# Altium footprint library Battery.PcbLib: 4 footprints
Each footprint in its own frame and in the unit in brackets; x right, y up, seen from the top. Pads: shape width x height; smd on the part's side, far side on the other; paste and mask are expansions set on the pad; w line width, h text height; cw(c..) or ccw(c..) is an arc to the next point about the centre after c.
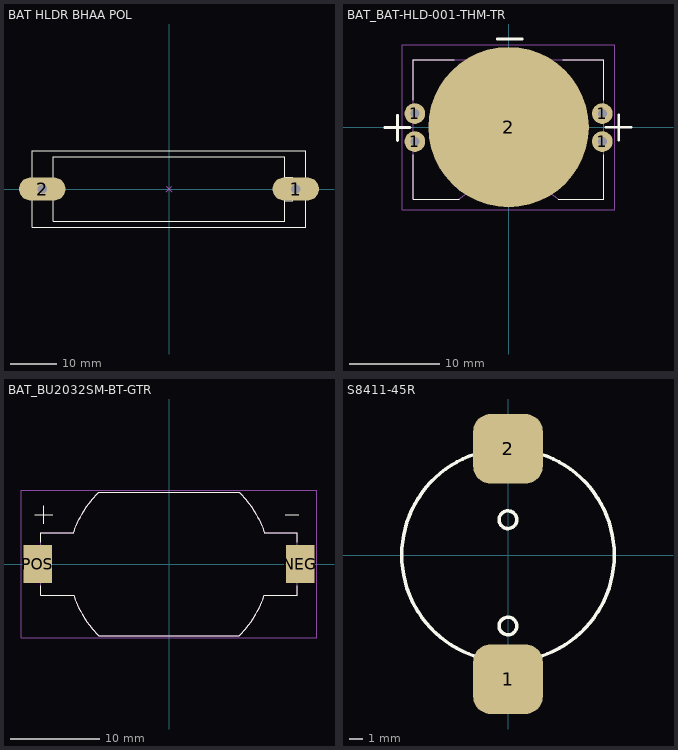
[diagram p0: the footprints below, top view; thin cyan lines are the x and y axes]

## BAT HLDR BHAA POL [mm]
pads (2):
  oval 10x5 hole 2: 1(27.305,0) 2(-27.305,0)
Top Overlay:
  lines w0.254: 24.892,-2.54 26.67,-2.54 26.67,2.54 24.892,2.54 ; -29.464,-8.255 29.464,-8.255 29.464,8.255 -29.464,8.255 -29.464,-8.255 ; -24.892,-6.985 24.892,-6.985 24.892,6.985 -24.892,6.985 -24.892,-6.985
Mechanical 1:
  lines w0.254: -0.635,-0.635 0.635,0.635 ; -0.635,0.635 0.635,-0.635
3D body "User Library-BAT_HLDR_BHAA-POL.STEP": height 21.12, standoff -3.28, extent -29.464,-8.255 29.464,8.255
3D body "User Library-BATTERY_AA.step": height 17.01, standoff 2.99, extent -24.9,-7.031 24.9,6.985

## BAT_BAT-HLD-001-THM-TR [mm]
pads (5):
  round 2.3 hole 1: 1(-10.4,-1.6) 1(-10.4,1.5) 1(10.4,-1.6) 1(10.4,1.5)
  round 17.8 smd paste-10: 2(0,0)
Top Overlay:
  lines w0.127: -10.55,-3.07 -10.55,-8 -5.5,-8 ; -10.55,2.97 -10.55,7.5 -6,7.5 ; 5.5,-8 10.55,-8 10.55,-3.07 ; 6,7.5 10.55,7.5 10.55,2.97
  lines w0.3: -13.729,-0.042 -10.935,-0.042 ; -12.314,-1.484 -12.314,1.31 ; -1.27,9.779 1.524,9.779 ; 10.81,-0.003 13.604,-0.003 ; 12.224,-1.445 12.224,1.349
Mechanical 13:
  lines w0.127: -5.558,-8.048 cw(c0.071,-14.756) 0.071,-6 ; -5.5,-8 -10.55,-8 -10.55,7.5 10.55,7.5 10.55,-8 5.5,-8 ; -0.071,-6 cw(c-0.071,-14.756) 5.558,-8.048
Mechanical 15:
  lines w0.05: -11.8,-9.15 -11.8,9.15 11.8,9.15 11.8,-9.15 -11.8,-9.15
3D body "BAT-HLD-001-THM-TR--3DModel-STEP-56544 (1).STEP": height 4.32, standoff -3.3, extent -10.541,-8.001 10.541,7.493

## BAT_BU2032SM-BT-GTR [mm]
pads (2):
  rect 3.2x4.2 smd: NEG(14.65,0) POS(-14.65,0)
Top Overlay:
  lines w0.127: -15,5.5 -13,5.5 ; -14.3,-2.42 -14.3,-3.5 -10.645,-3.5 -10.581,-3.681 -10.458,-4.024 -10.35,-4.287 -10.242,-4.538 -10.058,-4.937 -9.88,-5.282 -9.7,-5.594 -9.524,-5.892 -9.168,-6.436 -8.897,-6.809 -8.516,-7.277 -8.022,-7.82 -7.838,-8 ; -14.3,2.42 -14.3,3.5 -10.645,3.5 -10.581,3.681 -10.458,4.024 -10.35,4.287 -10.242,4.538 -10.058,4.937 -9.88,5.282 -9.7,5.594 -9.524,5.892 -9.168,6.436 -8.897,6.809 -8.516,7.277 -8.022,7.82 -7.838,8 ; -14,4.5 -14,6.5 ; -7.835,-8 7.835,-8 ; -7.835,8 7.835,8 ; 7.838,-8 8.022,-7.82 8.516,-7.277 8.897,-6.809 9.168,-6.436 9.524,-5.892 9.7,-5.594 9.88,-5.282 10.058,-4.937 10.242,-4.538 10.35,-4.287 10.458,-4.024 10.581,-3.681 10.645,-3.5 14.3,-3.5 14.3,-2.42 ; 7.838,8 8.022,7.82 8.516,7.277 8.897,6.809 9.168,6.436 9.524,5.892 9.7,5.594 9.88,5.282 10.058,4.937 10.242,4.538 10.35,4.287 10.458,4.024 10.581,3.681 10.645,3.5 14.3,3.5 14.3,2.42 ; 13,5.5 14.5,5.5
Mechanical 13:
  lines w0.127: -7.838,-8 -8.022,-7.82 -8.516,-7.277 -8.897,-6.809 -9.168,-6.436 -9.524,-5.892 -9.7,-5.594 -9.88,-5.282 -10.058,-4.937 -10.242,-4.538 -10.35,-4.287 -10.458,-4.024 -10.581,-3.681 -10.645,-3.5 -14.3,-3.5 -14.3,3.5 -10.645,3.5 -10.581,3.681 -10.458,4.024 -10.35,4.287 -10.242,4.538 -10.058,4.937 -9.88,5.282 -9.7,5.594 -9.524,5.892 -9.168,6.436 -8.897,6.809 -8.516,7.277 -8.022,7.82 -7.838,8 ; -7.835,-8 7.835,-8 ; -7.835,8 7.835,8 ; 7.838,-8 8.022,-7.82 8.516,-7.277 8.897,-6.809 9.168,-6.436 9.524,-5.892 9.7,-5.594 9.88,-5.282 10.058,-4.937 10.242,-4.538 10.35,-4.287 10.458,-4.024 10.581,-3.681 10.645,-3.5 14.3,-3.5 14.3,3.5 10.645,3.5 10.581,3.681 10.458,4.024 10.35,4.287 10.242,4.538 10.058,4.937 9.88,5.282 9.7,5.594 9.524,5.892 9.168,6.436 8.897,6.809 8.516,7.277 8.022,7.82 7.838,8
Mechanical 15:
  lines w0.05: -16.5,-8.25 -16.5,8.25 16.5,8.25 16.5,-8.25 -16.5,-8.25
3D body "BU2032SM-BT-GTR--3DModel-STEP-1.STEP": height 5.2, standoff 0, extent -15.93,-8 15.93,8

## S8411-45R [mm]
pads (2):
  rrect50% 5x5 smd: 1(0,-8.89) 2(0,7.62)
Top Overlay:
  circle w0.254: c0,0 r7.62
  circle w0.254: c0,2.54 r0.635
  circle w0.254: c0,-5.08 r0.635
3D body "User Library-s8411-45r_asm.STEP": height 5.25, standoff 0, extent -7.374,-10.3 7.375,8.901